# Altium footprint library 1985917.PcbLib: 1 footprints
Each footprint in its own frame and in the unit in brackets; x right, y up, seen from the top. Pads: shape width x height; smd on the part's side, far side on the other; paste and mask are expansions set on the pad; w line width, h text height; cw(c..) or ccw(c..) is an arc to the next point about the centre after c.
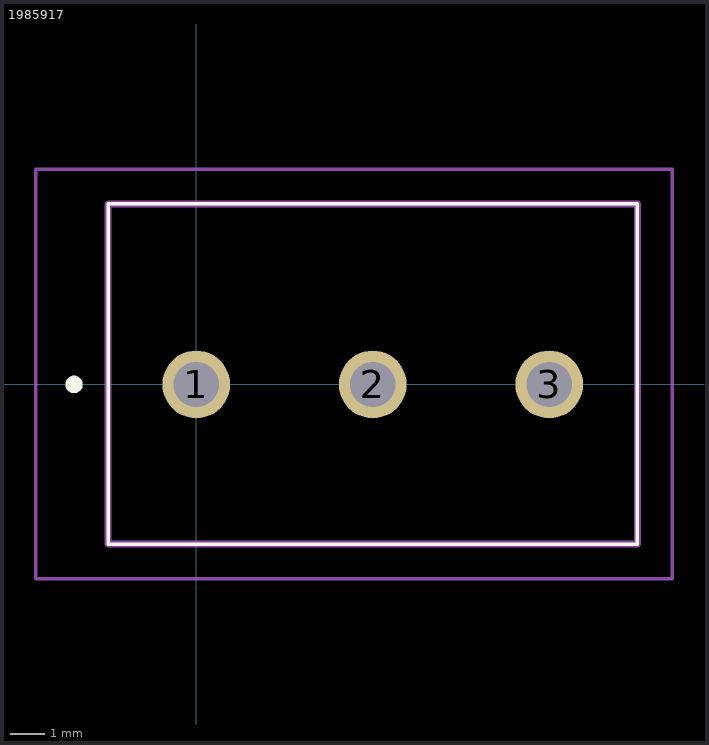
[diagram p0: the footprint, top view; thin cyan lines are the x and y axes]

## 1985917 [mm]
pads (3):
  round 1.95 hole 1.3: 1(0,0) 2(5.08,0) 3(10.16,0)
Top Overlay:
  lines w0.1: -2.54,-4.6 12.7,-4.6 12.7,5.2 -2.54,5.2 -2.54,-4.6
  lines w0.3: -3.62,0 cw(c-3.52,0) -3.42,0 ; -3.62,0 -3.62,0 ; -3.62,0 ccw(c-3.52,0) -3.42,0 ; -3.42,0 -3.42,0
Mechanical 15:
  lines w0.2: -2.54,-4.6 12.7,-4.6 12.7,5.2 -2.54,5.2 -2.54,-4.6
Mechanical 20:
  lines w0.1: -4.62,-5.6 13.7,-5.6 13.7,6.2 -4.62,6.2 -4.62,-5.6